# Altium schematic symbol library Linear_Technology_LTC3564IS5_TRMPBF.SchLib: 1 symbol
Pins are listed as number, name and electrical type; pins without a type are passive.

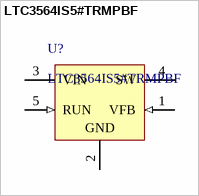
[diagram p0: symbol LTC3564IS5#TRMPBF]

## LTC3564IS5#TRMPBF
designator U?
2.25 MHz, 1.25 A Synchronous Step-Down Regulator, 5-pin SOT23 (S5-5), -40 to 125 degC, Pb-Free, Mini Tape and Reel; Manufacturer: Linear Technology; Number of Outputs: 1; ComponentLink1Description: Manufacturer URL; ComponentLink2Description: Datasheet; ComponentLink3Description: Package Specification; Mounting Technology: Surface Mount; ComponentLink3URL: http://cds.linear.com/docs/en/packaging/SOT_5_05-08-1635.pdf; ComponentLink1URL: http://www.linear.com/; Code_JEDEC: MO-193; Packing: Mini Tape and Reel; PackageVersion: Jun-10; RoHS: TRUE; PartNumber: LTC3564IS5#TRMPBF; PackageReference: S5-5; PackageDescription: 5-Pin Plastic TSOT-23, Body 1.63 x 2.90 mm, Pitch 0.95 mm; ComponentLink2URL: http://cds.linear.com/docs/en/datasheet/3564f.pdf
footprint LT-S5-5-TSOT-23_N
footprint LT-S5-5-TSOT-23_M
footprint LT-S5-5-TSOT-23_L
pins: 1 VFB (in) "Feedback Pin. Receives the feedback voltage from an external resistive divider across the output.", 2 GND (power) "Ground Pin.", 3 VIN (power) "Main Supply Pin. Must be closely decoupled to GND, Pin 2, with a 10uF or greater ceramic capacitor.", 4 SW (power) "Switch Node Connection to Inductor. This pin connects to the drains of the internal main and synchronous power MOSFET switches.", 5 RUN (in) "Run Control Input. Forcing this pin above 1.5V enables the part. Forcing this pin below 0.3V shuts down the device. In shutdown, all functions are disabled drawing <1uA supply current. Do not leave RUN floating."